# Altium schematic symbol library RP2350A.SchLib: 2 symbols
Pins are listed as number, name and electrical type; pins without a type are passive.

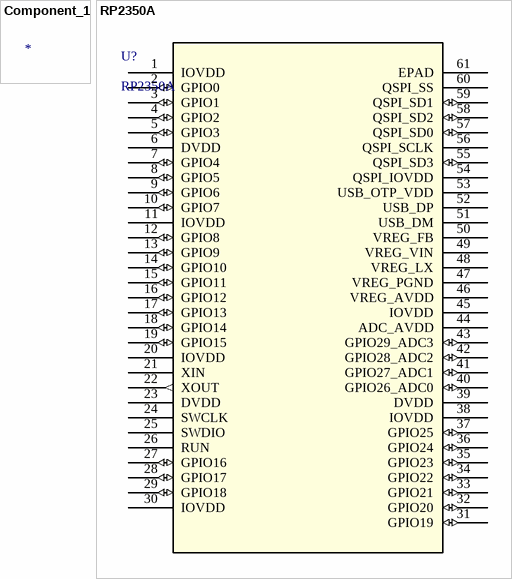
[diagram p0: symbols Component_1 to RP2350A]

## Component_1
designator *  (value not drawn)

## RP2350A
designator U?
No Description Available; Manufacturer_Name: Raspberry Pi; Copyright: Copyright (C) 2025 Ultra Librarian. All rights reserved.; Manufacturer_Part_Number: RP2350A; RefDes: RefDes; Type: Type
footprint QFN-60_7X7_RPI
pins: 1 IOVDD (power), 2 GPIO0 (io), 3 GPIO1 (io), 4 GPIO2 (io), 5 GPIO3 (io), 6 DVDD (power), 7 GPIO4 (io), 8 GPIO5 (io), 9 GPIO6 (io), 10 GPIO7 (io), 11 IOVDD (power), 12 GPIO8 (io), 13 GPIO9 (io), 14 GPIO10 (io), 15 GPIO11 (io), 16 GPIO12 (io), 17 GPIO13 (io), 18 GPIO14 (io), 19 GPIO15 (io), 20 IOVDD (power), 21 XIN, 22 XOUT (out), 23 DVDD (power), 24 SWCLK, 25 SWDIO, 26 RUN, 27 GPIO16 (io), 28 GPIO17 (io), 29 GPIO18 (io), 30 IOVDD (power), 31 GPIO19 (io), 32 GPIO20 (io), 33 GPIO21 (io), 34 GPIO22 (io), 35 GPIO23 (io), 36 GPIO24 (io), 37 GPIO25 (io), 38 IOVDD (power), 39 DVDD (power), 40 GPIO26_ADC0 (io), 41 GPIO27_ADC1 (io), 42 GPIO28_ADC2 (io), 43 GPIO29_ADC3 (io), 44 ADC_AVDD (power), 45 IOVDD (power), 46 VREG_AVDD (power), 47 VREG_PGND (power), 48 VREG_LX, 49 VREG_VIN, 50 VREG_FB, 51 USB_DM, 52 USB_DP, 53 USB_OTP_VDD (power), 54 QSPI_IOVDD (power), 55 QSPI_SD3 (io), 56 QSPI_SCLK, 57 QSPI_SD0 (io), 58 QSPI_SD2 (io), 59 QSPI_SD1 (io), 60 QSPI_SS, 61 EPAD (power)